# Altium integrated library Diode_B340A-13-F.IntLib: 1 symbol
Pins are listed as number, name and electrical type; pins without a type are passive.

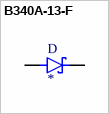
[diagram p0: symbol B340A-13-F]

## B340A-13-F
designator D
Diode Schottky 40V 3A Surface Mount SMA; MP: B340A-13-F; MF: Diodes Inc.; Availability: Unavailable; Price: None; Value: *; SnapEDA_Link: https://www.snapeda.com/parts/B340A-13-F/Diodes%20Inc./view-part/78704/?ref=snap; Package: DO-214 Diodes Inc.
footprint DIOM5226X240N
pins: A, C